# Altium footprint library LEDRGBW-8Pin.PcbLib: 1 footprints
Each footprint in its own frame and in the unit in brackets; x right, y up, seen from the top. Pads: shape width x height; smd on the part's side, far side on the other; paste and mask are expansions set on the pad; w line width, h text height; cw(c..) or ccw(c..) is an arc to the next point about the centre after c.
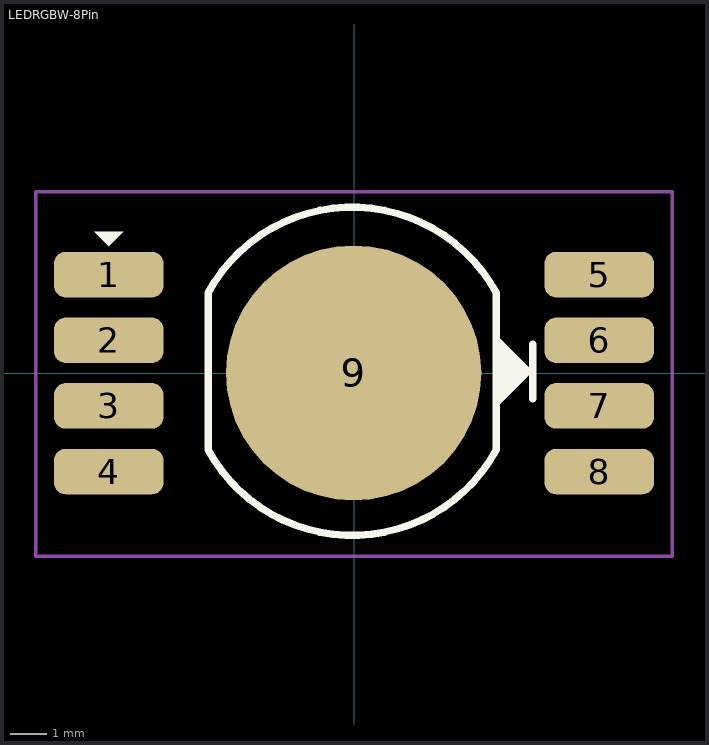
[diagram p0: the footprint, top view; thin cyan lines are the x and y axes]

## LEDRGBW-8Pin [mm]
pads (9):
  rrect50% 3x1.25 smd: 1(-6.725,2.7) 2(-6.725,0.9) 3(-6.725,-0.9) 4(-6.725,-2.7) 5(6.725,2.7) 6(6.725,0.9) 7(6.725,-0.9) 8(6.725,-2.7)
  round 7 smd paste-0.789: 9(-0.011,0.005)
Top Overlay:
  region: -7.125,3.875 -6.325,3.875 -6.725,3.475
  region: 3.9,1.05 3.9,-0.95 4.9,0.05
  lines w0.2: 4.9,-0.7 4.9,0.8 ; -4,-2.106 ccw(c-0.05,0.05) 3.9,-2.106 3.9,2.206 ccw(c-0.05,0.05) -4,2.206 -4,-2.106
Top Courtyard:
  lines w0.1: -8.725,-5.025 -8.725,4.975 8.725,4.975 8.725,-5.025 -7.125,-5.025 -8.725,-5.025
3D body "User Library-RGBW-4W.STEP": height 5.05, standoff 0, extent -7.35,-4.525 7.25,4.475